# Altium footprint library ADI-CP-40-7_L.PcbLib: 1 footprints
Each footprint in its own frame and in the unit in brackets; x right, y up, seen from the top. Pads: shape width x height; smd on the part's side, far side on the other; paste and mask are expansions set on the pad; w line width, h text height; cw(c..) or ccw(c..) is an arc to the next point about the centre after c.
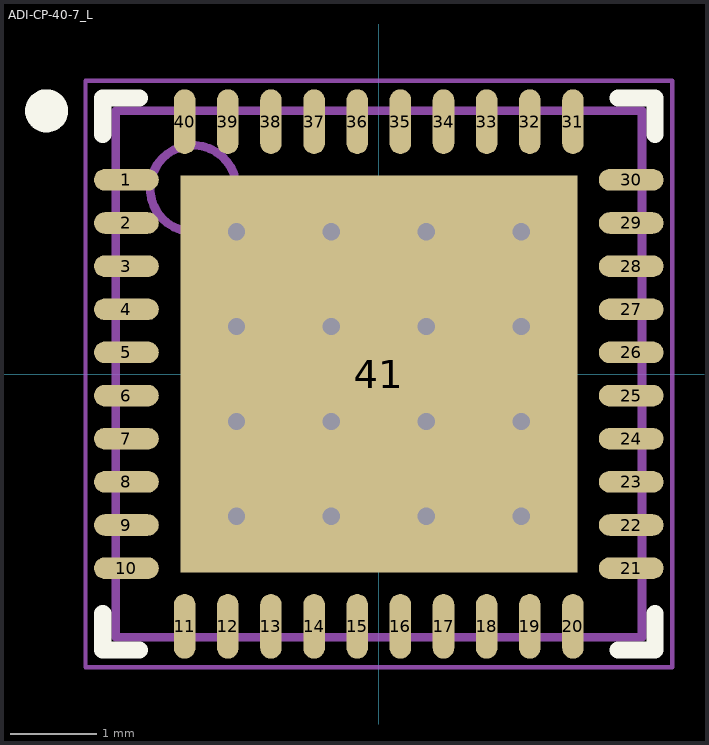
[diagram p0: the footprint, top view; thin cyan lines are the x and y axes]

## ADI-CP-40-7_L [mm] "QFN, 40-Leads, Body 6x6mm, Pitch 0.5mm, Thermal Pad 4.6x4.6mm, IPC High Density"
height 0.8
pads (41):
  oval 0.75x0.25 smd: 1(-2.925,2.25) 2(-2.925,1.75) 3(-2.925,1.25) 4(-2.925,0.75) 5(-2.925,0.25) 6(-2.925,-0.25) 7(-2.925,-0.75) 8(-2.925,-1.25) 9(-2.925,-1.75) 10(-2.925,-2.25) 21(2.925,-2.25) 22(2.925,-1.75) 23(2.925,-1.25) 24(2.925,-0.75) 25(2.925,-0.25) 26(2.925,0.25) 27(2.925,0.75) 28(2.925,1.25) 29(2.925,1.75) 30(2.925,2.25)
  oval 0.25x0.75 smd: 11(-2.25,-2.925) 12(-1.75,-2.925) 13(-1.25,-2.925) 14(-0.75,-2.925) 15(-0.25,-2.925) 16(0.25,-2.925) 17(0.75,-2.925) 18(1.25,-2.925) 19(1.75,-2.925) 20(2.25,-2.925) 31(2.25,2.925) 32(1.75,2.925) 33(1.25,2.925) 34(0.75,2.925) 35(0.25,2.925) 36(-0.25,2.925) 37(-0.75,2.925) 38(-1.25,2.925) 39(-1.75,2.925) 40(-2.25,2.925)
  rect 4.6x4.6 smd: 41(0,0)
via -1.65,1.65 diameter 0.5 hole 0.2
via -0.55,1.65 diameter 0.5 hole 0.2
via 0.55,1.65 diameter 0.5 hole 0.2
via 1.65,1.65 diameter 0.5 hole 0.2
via -1.65,0.55 diameter 0.5 hole 0.2
via -0.55,0.55 diameter 0.5 hole 0.2
via 0.55,0.55 diameter 0.5 hole 0.2
via 1.65,0.55 diameter 0.5 hole 0.2
via -1.65,-0.55 diameter 0.5 hole 0.2
via -0.55,-0.55 diameter 0.5 hole 0.2
via 0.55,-0.55 diameter 0.5 hole 0.2
via 1.65,-0.55 diameter 0.5 hole 0.2
via -1.65,-1.65 diameter 0.5 hole 0.2
via -0.55,-1.65 diameter 0.5 hole 0.2
via 0.55,-1.65 diameter 0.5 hole 0.2
via 1.65,-1.65 diameter 0.5 hole 0.2
Top Overlay:
  circle w0.25: c-3.85,3.05 r0.125
  lines w0.2: -3.2,-2.775 -3.2,-3.2 -2.775,-3.2 ; -3.2,2.775 -3.2,3.2 -2.775,3.2 ; 2.775,-3.2 3.2,-3.2 3.2,-2.775 ; 2.775,3.2 3.2,3.2 3.2,2.775
Mechanical 13:
  circle w0.1: c-2.15,2.15 r0.5
  lines w0.1: -3.05,-3.05 -3.05,3.05 3.05,3.05 3.05,-3.05 -3.05,-3.05
Mechanical 15:
  lines w0.05: -3.4,-3.4 -3.4,3.4 3.4,3.4 3.4,-3.4 -3.4,-3.4
  lines w0.1: -0.5,0 0.5,0 ; 0,-0.5 0,0.5
3D body: height 0.8, standoff 0, extent -3.05,-3.05 3.05,3.05